# Altium footprint library DIOT_Sampler.PcbLib: 103 footprints (part 7 of 7)
Each footprint in its own frame and in the unit in brackets; x right, y up, seen from the top. Pads: shape width x height; smd on the part's side, far side on the other; paste and mask are expansions set on the pad; w line width, h text height; cw(c..) or ccw(c..) is an arc to the next point about the centre after c.
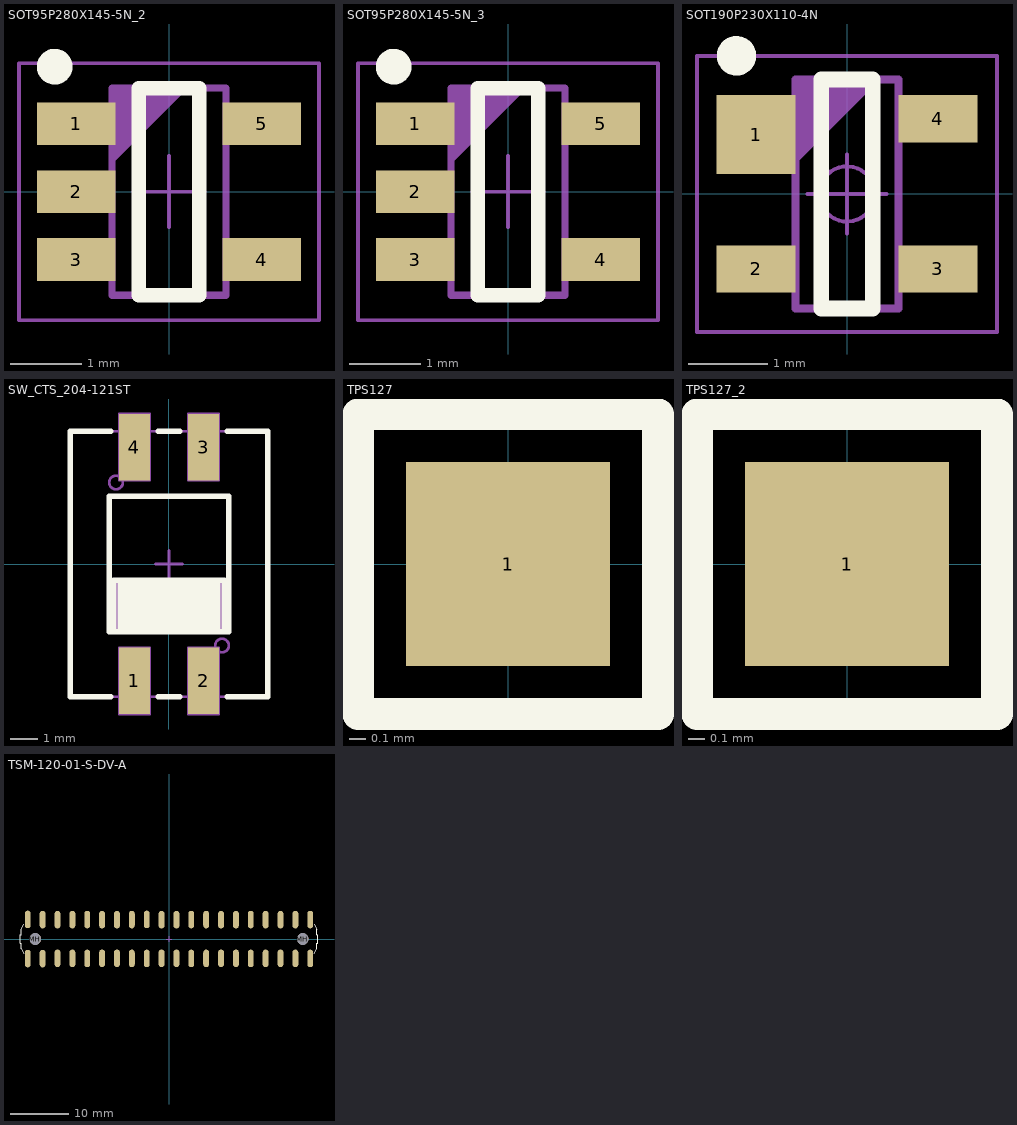
[diagram p6: the footprints below, top view; thin cyan lines are the x and y axes]

## SOT95P280X145-5N_2 [mm]
pads (5):
  rect 1.1x0.6 smd: 1(-1.3,0.95) 2(-1.3,0) 3(-1.3,-0.95) 4(1.3,-0.95) 5(1.3,0.95)
Top Overlay:
  circle w0.25: c-1.6,1.75 r0.125
  lines w0.2: -0.425,-1.45 0.425,-1.45 0.425,1.45 -0.425,1.45 -0.425,-1.45
Mechanical 14:
  lines w0.1: -0.8,0.45 0.2,1.45 ; -0.8,0.55 0.1,1.45 ; -0.8,0.65 0,1.45 ; -0.8,0.75 -0.1,1.45 ; -0.8,0.85 -0.2,1.45 ; -0.8,0.95 -0.3,1.45 ; -0.8,1.05 -0.4,1.45 ; -0.8,1.15 -0.5,1.45 ; -0.8,1.25 -0.6,1.45 ; -0.8,1.35 -0.7,1.45 ; -0.8,-1.45 0.8,-1.45 0.8,1.45 -0.8,1.45 -0.8,-1.45
Mechanical 15:
  lines w0.05: -0.5,0 0.5,0 ; 0,-0.5 0,0.5 ; -2.1,-1.8 2.1,-1.8 2.1,1.8 -2.1,1.8 -2.1,-1.8
3D body "SOT95P280X145-5N.stp": height 1.45, standoff 0, extent -1.4,-1.5 1.4,1.5

## SOT95P280X145-5N_3 [mm]
pads (5):
  rect 1.1x0.6 smd: 1(-1.3,0.95) 2(-1.3,0) 3(-1.3,-0.95) 4(1.3,-0.95) 5(1.3,0.95)
Top Overlay:
  circle w0.25: c-1.6,1.75 r0.125
  lines w0.2: -0.425,-1.45 -0.425,1.45 0.425,1.45 0.425,-1.45 -0.425,-1.45
Mechanical 14:
  lines w0.1: -0.8,0.45 0.2,1.45 ; -0.8,0.55 0.1,1.45 ; -0.8,0.65 0,1.45 ; -0.8,0.75 -0.1,1.45 ; -0.8,0.85 -0.2,1.45 ; -0.8,0.95 -0.3,1.45 ; -0.8,1.05 -0.4,1.45 ; -0.8,1.15 -0.5,1.45 ; -0.8,1.25 -0.6,1.45 ; -0.8,1.35 -0.7,1.45 ; -0.8,-1.45 -0.8,1.45 0.8,1.45 0.8,-1.45 -0.8,-1.45
Mechanical 15:
  lines w0.05: -0.5,0 0.5,0 ; 0,-0.5 0,0.5 ; -2.1,-1.8 -2.1,1.8 2.1,1.8 2.1,-1.8 -2.1,-1.8
3D body "SOT95P280X145-5N.stp": height 1.45, standoff 0, extent -1.4,-1.5 1.4,1.5

## SOT190P230X110-4N [mm]
pads (4):
  rect 1x1 smd: 1(-1.15,0.75)
  rect 1x0.6 smd: 2(-1.15,-0.95) 3(1.15,-0.95) 4(1.15,0.95)
Top Overlay:
  circle w0.25: c-1.4,1.75 r0.125
  lines w0.2: -0.325,-1.45 0.325,-1.45 0.325,1.45 -0.325,1.45 -0.325,-1.45
Mechanical 14:
  lines w0.1: -0.65,0.45 0.35,1.45 ; -0.65,0.55 0.25,1.45 ; -0.65,0.65 0.15,1.45 ; -0.65,0.75 0.05,1.45 ; -0.65,0.85 -0.05,1.45 ; -0.65,0.95 -0.15,1.45 ; -0.65,1.05 -0.25,1.45 ; -0.65,1.15 -0.35,1.45 ; -0.65,1.25 -0.45,1.45 ; -0.65,1.35 -0.55,1.45 ; -0.65,-1.45 0.65,-1.45 0.65,1.45 -0.65,1.45 -0.65,-1.45
Mechanical 15:
  circle w0.05: c0,0 r0.35
  lines w0.05: -0.5,0 0.5,0 ; 0,-0.5 0,0.5 ; -1.9,-1.75 1.9,-1.75 1.9,1.75 -1.9,1.75 -1.9,-1.75
3D body "SOT143N.stp": height 1.1, standoff 0, extent -1.25,-1.5 1.25,1.5

## SW_CTS_204-121ST [mm]
pads (4):
  rect 1.13x2.44 smd: 1(-1.27,-4.3) 2(1.27,-4.3) 3(1.27,4.3) 4(-1.27,4.3)
Top Overlay:
  lines w0.2: -2.135,-4.89 -3.63,-4.89 -3.63,4.89 -2.135,4.89 ; -2.03,-2.5 -2.03,-0.6 2.03,-0.6 2.03,-2.5 ; -1.8,-2.5 -1.8,-0.6 ; -1.6,-2.5 -1.6,-0.6 ; -1.4,-2.5 -1.4,-0.6 ; -1.2,-2.5 -1.2,-0.6 ; -1,-2.5 -1,-0.6 ; -0.8,-2.5 -0.8,-0.6 ; -0.6,-2.5 -0.6,-0.6 ; -0.405,-4.89 0.405,-4.89 ; -0.405,4.89 0.405,4.89 ; -0.4,-2.5 -0.4,-0.6 ; -0.2,-2.5 -0.2,-0.6 ; 0.2,-2.5 0.2,-0.6 ; 0.4,-2.5 0.4,-0.6 ; 0.6,-2.5 0.6,-0.6 ; 0.8,-2.5 0.8,-0.6 ; 1,-2.5 1,-0.6 ; 1.2,-2.5 1.2,-0.6 ; 1.4,-2.5 1.4,-0.6 ; 1.6,-2.5 1.6,-0.6 ; 1.8,-2.5 1.8,-0.6 ; 2.135,-4.89 3.63,-4.89 3.63,4.89 2.135,4.89 ; -2.2,-2.5 -2.2,2.5 2.2,2.5 2.2,-2.5 -2.2,-2.5 ; 0,-2.5 0,-0.6 0,-2.5
Mechanical 8:
  lines w0.1: -1.77,-4.3 -1.27,-4.3 ; -1.77,4.3 -1.27,4.3 ; -1.27,-4.8 -1.27,-4.3 ; -1.27,-3.8 -1.27,-4.3 ; -1.27,3.8 -1.27,4.3 ; -1.27,4.8 -1.27,4.3 ; -0.77,-4.3 -1.27,-4.3 ; -0.77,4.3 -1.27,4.3 ; -0.5,0 0,0 ; 0,-0.5 0,0 ; 0,0.5 0,0 ; 0.5,0 0,0 ; 0.77,-4.3 1.27,-4.3 ; 0.77,4.3 1.27,4.3 ; 1.27,-4.8 1.27,-4.3 ; 1.27,-3.8 1.27,-4.3 ; 1.27,3.8 1.27,4.3 ; 1.27,4.8 1.27,4.3 ; 1.77,-4.3 1.27,-4.3 ; 1.77,4.3 1.27,4.3 ; -1.835,-5.52 -1.835,-3.08 -0.705,-3.08 -0.705,-5.52 -1.835,-5.52 ; -1.835,3.08 -1.835,5.52 -0.705,5.52 -0.705,3.08 -1.835,3.08 ; 0.705,-5.52 0.705,-3.08 1.835,-3.08 1.835,-5.52 0.705,-5.52 ; 0.705,3.08 0.705,5.52 1.835,5.52 1.835,3.08 0.705,3.08
Mechanical 14:
  circle w0.1: c1.95,-3 r0.25
  circle w0.1: c-1.95,3 r0.25
  lines w0.1: -2.03,-2.5 -2.03,-0.6 2.03,-0.6 2.03,-2.5 ; -1.95,-2.5 -1.95,-0.6 ; -1.85,-2.5 -1.85,-0.6 ; -1.835,-4.89 -1.835,-5.52 -0.705,-5.52 -0.705,-4.89 ; -1.835,4.89 -1.835,5.52 -0.705,5.52 -0.705,4.89 ; -1.75,-2.5 -1.75,-0.6 ; -1.65,-2.5 -1.65,-0.6 ; -1.55,-2.5 -1.55,-0.6 ; -1.45,-2.5 -1.45,-0.6 ; -1.35,-2.5 -1.35,-0.6 ; -1.25,-2.5 -1.25,-0.6 ; -1.15,-2.5 -1.15,-0.6 ; -1.05,-2.5 -1.05,-0.6 ; -0.95,-2.5 -0.95,-0.6 ; -0.85,-2.5 -0.85,-0.6 ; -0.75,-2.5 -0.75,-0.6 ; -0.65,-2.5 -0.65,-0.6 ; -0.55,-2.5 -0.55,-0.6 ; -0.45,-2.5 -0.45,-0.6 ; -0.35,-2.5 -0.35,-0.6 ; -0.25,-2.5 -0.25,-0.6 ; -0.15,-2.5 -0.15,-0.6 ; -0.05,-2.5 -0.05,-0.6 ; 0.05,-2.5 0.05,-0.6 ; 0.15,-2.5 0.15,-0.6 ; 0.25,-2.5 0.25,-0.6 ; 0.35,-2.5 0.35,-0.6 ; 0.45,-2.5 0.45,-0.6 ; 0.55,-2.5 0.55,-0.6 ; 0.65,-2.5 0.65,-0.6 ; 0.705,-4.89 0.705,-5.52 1.835,-5.52 1.835,-4.89 ; 0.705,4.89 0.705,5.52 1.835,5.52 1.835,4.89 ; 0.75,-2.5 0.75,-0.6 ; 0.85,-2.5 0.85,-0.6 ; 0.95,-2.5 0.95,-0.6 ; 1.05,-2.5 1.05,-0.6 ; 1.15,-2.5 1.15,-0.6 ; 1.25,-2.5 1.25,-0.6 ; 1.35,-2.5 1.35,-0.6 ; 1.45,-2.5 1.45,-0.6 ; 1.55,-2.5 1.55,-0.6 ; 1.65,-2.5 1.65,-0.6 ; 1.75,-2.5 1.75,-0.6 ; 1.85,-2.5 1.85,-0.6 ; 1.95,-2.5 1.95,-0.6 ; -3.63,-4.89 -3.63,4.89 3.63,4.89 3.63,-4.89 -3.63,-4.89 ; -2.2,-2.5 -2.2,2.5 2.2,2.5 2.2,-2.5 -2.2,-2.5
3D body "SW_CTS_204-121ST.stp": height 10.36, standoff 0, extent -3.63,-5.2 3.63,5.2

## TPS127 [mm]
pads (1):
  rect 1.27x1.27 smd paste-1.27: 1(0,0)
Top Overlay:
  lines w0.2: -0.935,-0.935 0.935,-0.935 0.935,0.935 -0.935,0.935 -0.935,-0.935
Mechanical 14:
  lines w0.1: -0.585,-0.585 0.585,-0.585 0.585,0.585 -0.585,0.585 -0.585,-0.585

## TPS127_2 [mm]
pads (1):
  rect 1.27x1.27 smd paste-1.27: 1(0,0)
Top Overlay:
  lines w0.2: -0.935,-0.935 0.935,-0.935 0.935,0.935 -0.935,0.935 -0.935,-0.935
Mechanical 14:
  lines w0.1: -0.935,-0.935 0.935,-0.935 0.935,0.935 -0.935,0.935 -0.935,-0.935

## TSM-120-01-S-DV-A [mm]
pads (42):
  oval 1x3 smd: 1(-24.13,-3.348) 2(-24.13,3.348) 3(-21.59,-3.348) 4(-21.59,3.31) 5(-19.05,-3.31) 6(-19.05,3.31) 7(-16.51,-3.31) 8(-16.51,3.31) 9(-13.97,-3.31) 10(-13.97,3.31) 11(-11.43,-3.31) 12(-11.43,3.31) 13(-8.89,-3.31) 14(-8.89,3.31) 15(-6.35,-3.31) 16(-6.35,3.31) 17(-3.81,-3.31) 18(-3.81,3.348) 19(-1.27,-3.31) 20(-1.27,3.31) 21(1.27,-3.31) 22(1.27,3.31) 23(3.81,-3.31) 24(3.81,3.31) 25(6.35,-3.31) 26(6.35,3.31) 27(8.89,-3.31) 28(8.89,3.31) 29(11.43,-3.31) 30(11.43,3.31) 31(13.97,-3.31) 32(13.97,3.31) 33(16.51,-3.31) 34(16.51,3.31) 35(19.05,-3.31) 36(19.05,3.31) 37(21.59,-3.31) 38(21.59,3.31) 39(24.13,-3.31) 40(24.13,3.31)
  round 2 hole 2 unplated: MH(-22.86,0) MH(22.86,0)
Top Overlay:
  lines w0.2: -24.829,-2.54 -25.209,-1.651 -25.209,-0.762 -25.4,-0.762 -25.4,0.762 -25.209,0.762 -25.209,1.651 -24.829,2.54 ; 24.829,-2.54 25.209,-1.651 25.209,-0.762 25.4,-0.762 25.4,0.762 25.209,0.762 25.209,1.651 24.829,2.54
Mechanical 1:
  lines w0.2: -0.5,0 0,0 ; 0,-0.5 0,0 ; 0,0.5 0,0 ; 0.5,0 0,0
Bottom 3D Body:
  text "'.Designator' / '.ComponentSymbol'" at -5.5,-1.2 h1.27
3D body "TSM-120-01-L-DV-A-P-TR.step": height 10.93, standoff -1.26, extent -25.4,-3.848 25.4,3.848